# Altium schematic symbol library DIODE,Gen,100V,300mA,SMD.Schlib: 1 symbol
Pins are listed as number, name and electrical type; pins without a type are passive.

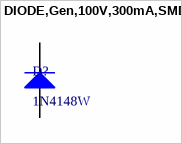
[diagram p0: symbol DIODE,Gen,100V,300mA,SMD]

## DIODE,Gen,100V,300mA,SMD
designator D?, comment 1N4148W
DIODE GEN PURP 100V 300MA SOD123
pins: 1 K, 2 A